# EAGLE library part ICM-20689 (library ICM-20689)
6-Axis Drone/Vr/Iot Solution (Pi)
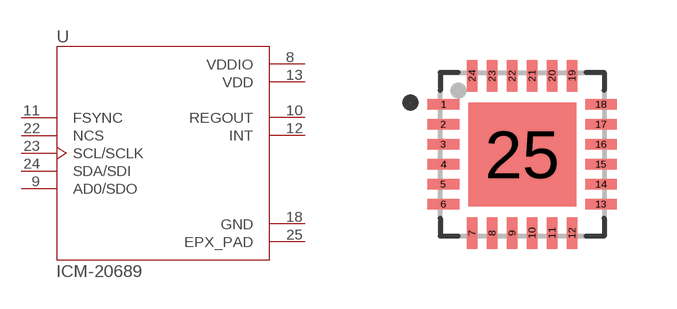
[diagram p0: symbol with the pads of QFN50P400X400X95-25N; footprint QFN50P400X400X95-25N]

Designator prefix U

## ICM-20689 (Availability: Unavailable; Description: 6-Axis Drone/Vr/Iot Solution _Pi; MF: TDK InvenSense; MP: ICM-20689; Package: QFN-24 InvenSense; Price: None)  [QFN50P400X400X95-25N]
8  VDDIO  pwr
9  AD0/SDO
10  REGOUT  out
11  FSYNC  in
12  INT  out
13  VDD  pwr
18  GND  pwr
22  NCS  in
23  SCL/SCLK  in
24  SDA/SDI
25  EPX_PAD  pwr

## Footprint QFN50P400X400X95-25N (pad centres in mm)
smd 0.79 x 0.26: 1 -1.97,1.25; 2 -1.97,0.75; 3 -1.97,0.25; 4 -1.97,-0.25; 5 -1.97,-0.75; 6 -1.97,-1.25; 13 1.97,-1.25; 14 1.97,-0.75; 15 1.97,-0.25; 16 1.97,0.25; 17 1.97,0.75; 18 1.97,1.25
smd 0.26 x 0.79: 7 -1.25,-1.97; 8 -0.75,-1.97; 9 -0.25,-1.97; 10 0.25,-1.97; 11 0.75,-1.97; 12 1.25,-1.97; 19 1.25,1.97; 20 0.75,1.97; 21 0.25,1.97; 22 -0.25,1.97; 23 -0.75,1.97; 24 -1.25,1.97
smd 2.7 x 2.6: 25 0,0